# Altium schematic symbol library Seeed-OPL-fuse.SCHLIB: 21 symbols
Pins are listed as number, name and electrical type; pins without a type are passive.

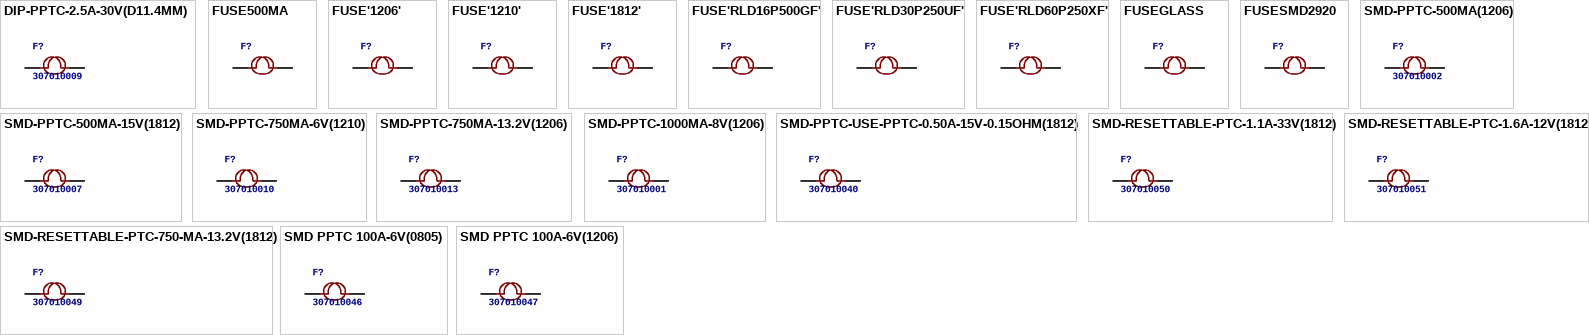
[diagram p0: symbols DIP-PPTC-2.5A-30V(D11.4MM) to SMD PPTC 100A-6V(1206)]

## DIP-PPTC-2.5A-30V(D11.4MM)
designator F?, comment 307010009
MPN: 30R250
footprint F2-5.1-11.4X3.0X18.3MM
pins: 1, 2

## FUSE500MA
designator F?
footprint F3366
pins: 1, 2

## FUSE'1206'
designator F?
footprint F1206
pins: 1, 2

## FUSE'1210'
designator F?
footprint F1210
pins: 1, 2

## FUSE'1812'
designator F?
footprint F1812
pins: 1, 2

## FUSE'RLD16P500GF'
designator F?
footprint F2-5.1-10.4X3.0X14.3MM
pins: 1, 2

## FUSE'RLD30P250UF'
designator F?
footprint F2-5.1-11.4X3.0X18.3MM
pins: 1, 2

## FUSE'RLD60P250XF'
designator F?
footprint F2-5.1-21.3X3.1X26.4MM
pins: 1, 2

## FUSEGLASS
designator F?
footprint F2-22.5-D2.3XL22.6MM
pins: 1, 2

## FUSESMD2920
designator F?
footprint F2920
pins: 1, 2

## SMD-PPTC-500MA(1206)
designator F?, comment 307010002
MPN: SMD1206R500SF
footprint F1206
pins: 1, 2

## SMD-PPTC-500MA-15V(1812)
designator F?, comment 307010007
MPN: SMD1206R500SF
footprint F1812
pins: 1, 2

## SMD-PPTC-750MA-6V(1210)
designator F?, comment 307010010
MPN: SMD1210R075SF
footprint F1210
pins: 1, 2

## SMD-PPTC-750MA-13.2V(1206)
designator F?, comment 307010013
MPN: KT13-0750SMD
footprint F1206
pins: 1, 2

## SMD-PPTC-1000MA-8V(1206)
designator F?, comment 307010001
MPN: KT8-1000SMD1206
footprint F1206
pins: 1, 2

## SMD-PPTC-USE-PPTC-0.50A-15V-0.15OHM(1812)
designator F?, comment 307010040
MPN: MF-MSMF050-2
footprint F1812
pins: 1, 2

## SMD-RESETTABLE-PTC-1.1A-33V(1812)
designator F?, comment 307010050
MPN: 1812L110/33MR
footprint F1812
pins: 1, 2

## SMD-RESETTABLE-PTC-1.6A-12V(1812)
designator F?, comment 307010051
MPN: 1812L160/12DR
footprint F1812
pins: 1, 2

## SMD-RESETTABLE-PTC-750-MA-13.2V(1812)
designator F?, comment 307010049
MPN: 1812L075PR
footprint F1812
pins: 1, 2

## SMD PPTC 100A-6V(0805)
designator F?, comment 307010046
MPN: SMD0805R100S
footprint F0805
pins: 1, 2

## SMD PPTC 100A-6V(1206)
designator F?, comment 307010047
MPN: SMD1206R260SF
footprint F1206
pins: 1, 2